# EAGLE library part UB2-SPBICOLOR (library SKAARHOJ)
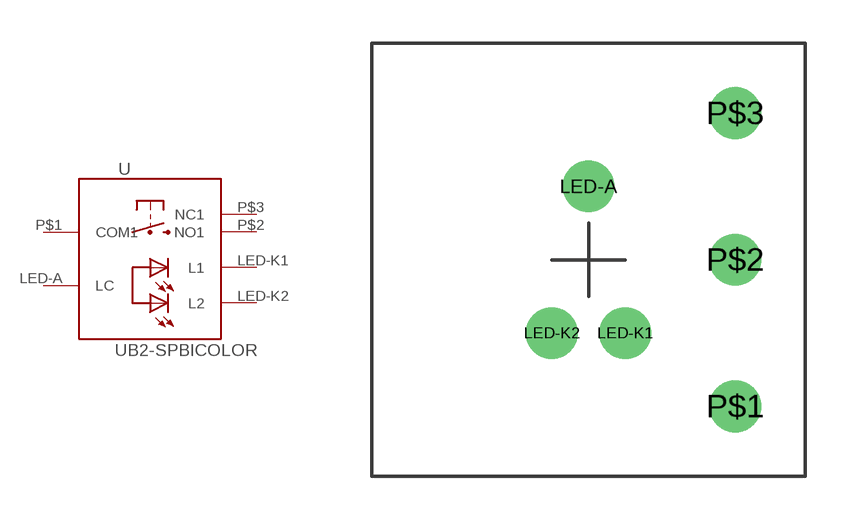
[diagram p34: symbol with the pads of UB2-SPBICOLOR; footprint UB2-SPBICOLOR]

Designator prefix -

## UB2-SPBICOLOR  [UB2-SPBICOLOR]
LED-A  LC
LED-K1  L1
LED-K2  L2
P$1  COM1
P$2  NO1
P$3  NC1

## Footprint UB2-SPBICOLOR (pad centres in mm)
drill 1.194: LED-A 0,2.54; LED-K1 1.27,-2.54; LED-K2 -1.27,-2.54; P$1 5.08,-5.08; P$2 5.08,0; P$3 5.08,5.08